# Altium schematic symbol library inductor.SchLib: 1 symbol
Pins are listed as number, name and electrical type; pins without a type are passive.

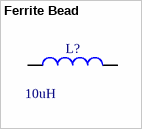
[diagram p0: symbol Ferrite Bead]

## Ferrite Bead
designator L?, comment value 10uH  (hidden comment: Ferrite)
Ferrite Bead; Manufacturer Part No: VLS201612ET-100M; ComponentLink1URL: https://product.tdk.com/info/en/documents/catalog/inductor_commercial_power_vls201612e_en.pdf; Digi-Key Part Number: 445-6617-1-ND; ComponentLink1Description: Datasheet
footprint VLS201612E-CA Inductor (VLS201612E-CA Ferrite Inductor)
pins: 1, 2